# Altium footprint library PcbLib2.PcbLib: 32 footprints (part 2 of 2)
Each footprint in its own frame and in the unit in brackets; x right, y up, seen from the top. Pads: shape width x height; smd on the part's side, far side on the other; paste and mask are expansions set on the pad; w line width, h text height; cw(c..) or ccw(c..) is an arc to the next point about the centre after c.
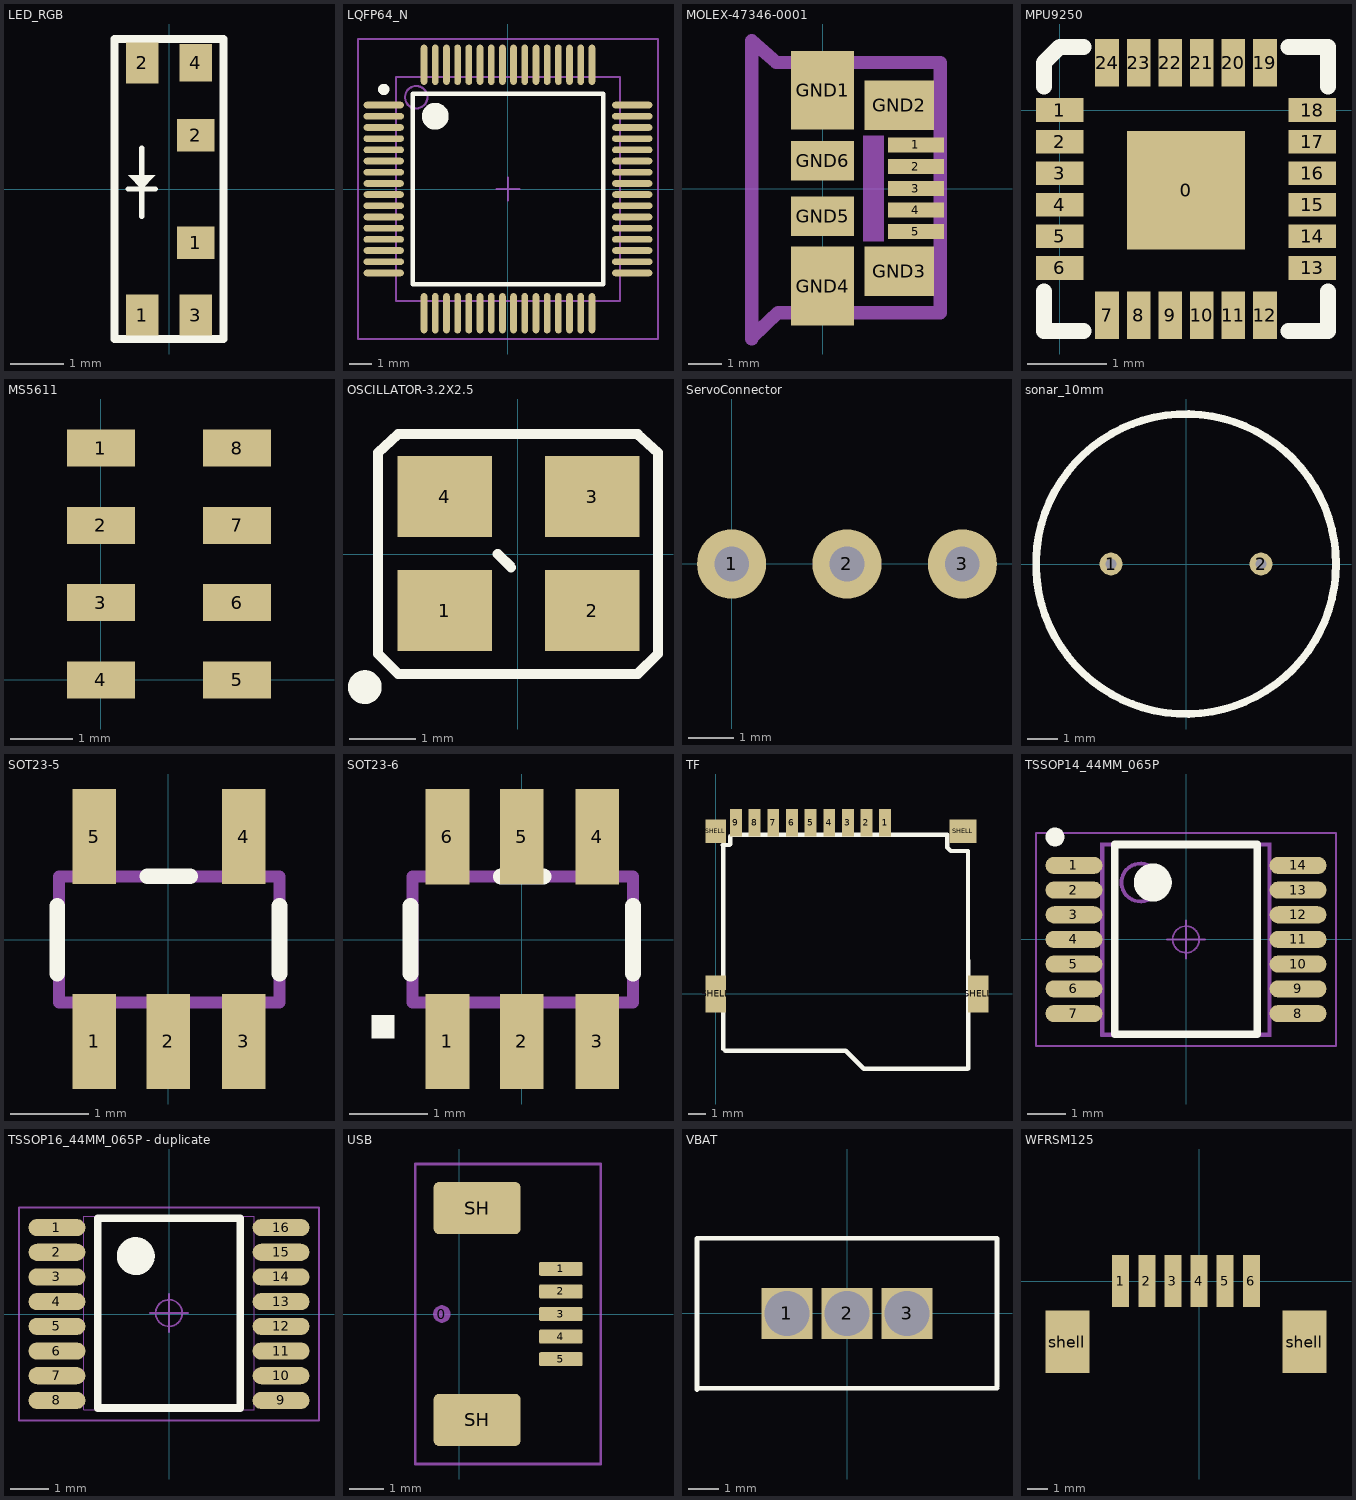
[diagram p1: the footprints below, top view; thin cyan lines are the x and y axes]

## LED_RGB [mm]
pads (6):
  rect 0.6x0.762 smd: 1(-0.5,-2.35) 2(-0.5,2.35) 3(0.5,-2.35)
  rect 0.7x0.6 smd: 1(0.5,-1) 2(0.5,1)
  rect 0.6x0.7 smd: 4(0.5,2.35)
Top Overlay:
  region: -0.762,0.254 -0.254,0.254 -0.508,0
  lines w0.1: -0.762,0 -0.254,0 ; -0.508,-0.508 -0.508,0.762
  lines w0.152: -1.016,-2.794 -1.016,2.794 -0.508,2.794 0.508,2.794 1.016,2.794 1.016,-2.794 0,-2.794 -1.016,-2.794

## LQFP64_N [mm]
pads (64):
  oval 1.8x0.3 smd: 1(-5.55,3.75) 2(-5.55,3.25) 3(-5.55,2.75) 4(-5.55,2.25) 5(-5.55,1.75) 6(-5.55,1.25) 7(-5.55,0.75) 8(-5.55,0.25) 9(-5.55,-0.25) 10(-5.55,-0.75) 11(-5.55,-1.25) 12(-5.55,-1.75) 13(-5.55,-2.25) 14(-5.55,-2.75) 15(-5.55,-3.25) 16(-5.55,-3.75) 33(5.55,-3.75) 34(5.55,-3.25) 35(5.55,-2.75) 36(5.55,-2.25) 37(5.55,-1.75) 38(5.55,-1.25) 39(5.55,-0.75) 40(5.55,-0.25) 41(5.55,0.25) 42(5.55,0.75) 43(5.55,1.25) 44(5.55,1.75) 45(5.55,2.25) 46(5.55,2.75) 47(5.55,3.25) 48(5.55,3.75)
  oval 0.3x1.8 smd: 17(-3.75,-5.55) 18(-3.25,-5.55) 19(-2.75,-5.55) 20(-2.25,-5.55) 21(-1.75,-5.55) 22(-1.25,-5.55) 23(-0.75,-5.55) 24(-0.25,-5.55) 25(0.25,-5.55) 26(0.75,-5.55) 27(1.25,-5.55) 28(1.75,-5.55) 29(2.25,-5.55) 30(2.75,-5.55) 31(3.25,-5.55) 32(3.75,-5.55) 49(3.75,5.55) 50(3.25,5.55) 51(2.75,5.55) 52(2.25,5.55) 53(1.75,5.55) 54(1.25,5.55) 55(0.75,5.55) 56(0.25,5.55) 57(-0.25,5.55) 58(-0.75,5.55) 59(-1.25,5.55) 60(-1.75,5.55) 61(-2.25,5.55) 62(-2.75,5.55) 63(-3.25,5.55) 64(-3.75,5.55)
Top Overlay:
  circle w0.25: c-5.55,4.45 r0.125
  circle w0.6: c-3.25,3.25 r0.3
  lines w0.2: -4.25,-4.25 -4.25,4.25 4.25,4.25 4.25,-4.25 -4.25,-4.25
Mechanical 13:
  circle w0.1: c-4.1,4.1 r0.5
  lines w0.1: -5,-5 -5,5 5,5 5,-5 -5,-5
Mechanical 15:
  lines w0.1: -0.5,0 0.5,0 ; 0,-0.5 0,0.5 ; -6.7,-6.7 -6.7,6.7 6.7,6.7 6.7,-6.7 -6.7,-6.7

## MOLEX-47346-0001 [mil] "MOLEX-47346-0001"
pads (11):
  rect 67x18 smd: 1(111,52) 2(111,26) 3(111,0) 4(111,-25.59) 5(111,-51.18)
  rect 75x94 smd: GND1(0,117) GND4(0,-116.14)
  rect 83x59 smd: GND2(91,99) GND3(91,-98.43)
  rect 75x47 smd: GND5(0,-32.97) GND6(0,33)
Mechanical 8:
  rectangle: 48,-62.99 73,63
Mechanical 16:
  lines w1: -86.61,-177.17 -86.61,178 -82.68,178 -55.12,150 138,150 142,146 142,-145.67 138,-149.61 -55.12,-149.61 -82.68,-177.17 -86.61,-177.17
  lines w16: -84.65,-179.13 -84.65,-177.17 ; -84.65,-177.17 -84.65,176 -55.12,150 140,150 140,-147.64 -53.15,-147.64 -84.65,-177.17

## MPU9250 [mm]
pads (25):
  rect 1.5x1.5 smd: 0(1.6,-1.016)
  rect 0.6x0.3 smd: 1(0,0) 2(0,-0.4) 3(0,-0.8) 4(0,-1.2) 5(0,-1.6) 6(0,-2) 13(3.2,-2) 14(3.2,-1.6) 15(3.2,-1.2) 16(3.2,-0.8) 17(3.2,-0.4) 18(3.2,0)
  rect 0.3x0.6 smd: 7(0.6,-2.6) 8(1,-2.6) 9(1.4,-2.6) 10(1.8,-2.6) 11(2.2,-2.6) 12(2.6,-2.6) 19(2.6,0.6) 20(2.2,0.6) 21(1.8,0.6) 22(1.4,0.6) 23(1,0.6) 24(0.6,0.6)
Top Overlay:
  lines w0.2: -0.2,-2.3 -0.2,-2.8 0.3,-2.8 ; -0.2,0.3 -0.2,0.6 0,0.8 0.3,0.8 ; 2.9,-2.8 3.4,-2.8 3.4,-2.3 ; 2.9,0.8 3.4,0.8 3.4,0.3
3D body: height 1, standoff 0, extent 0.102,-2.515 3.099,0.483

## MS5611 [mm]
pads (8):
  rect 1.1x0.6 smd: 1(0,3.75) 2(0,2.5) 3(0,1.25) 4(0,0) 5(2.2,0) 6(2.2,1.25) 7(2.2,2.5) 8(2.2,3.75)
3D body: height 1, standoff 0, extent -0.508,-0.508 2.667,4.318

## OSCILLATOR-3.2X2.5 [mil] "OSCILLATOR-3.2X2.5"
pads (4):
  rect 56x48 smd: 1(-43.31,-33.46) 2(44,-33.46) 3(44,34) 4(-43.31,34)
Top Overlay:
  circle w12: c-90.55,-78.74 r4
  lines w6: -11.81,0 -3.94,-7.87 ; -82.68,-59.06 -70.87,-70.87 71,-70.87 83,-59.06 83,60 71,71 -70.87,71 -82.68,60 -82.68,-59.06
Mechanical 16:
  lines w1: -82.68,-59.06 -70.87,-70.87 71,-70.87 83,-59.06 83,60 71,71 -70.87,71 -82.68,60 -82.68,-59.06

## ServoConnector [mil]
pads (3):
  round 60 hole 30: 1(0,0) 2(100,0) 3(200,0)

## sonar_10mm [mil]
pads (2):
  round 30 hole 15: 1(-98.43,0) 2(98.43,0)
Top Overlay:
  circle w10: c0,0 r196.85

## SOT23-5 [mil] "SOT23-5"
pads (5):
  rect 22x48 smd: 1(-37.4,-51.19) 2(0,-51.19) 3(38,-51.19) 4(38,52) 5(-37.4,52)
Top Overlay:
  lines w8: -56,-16.91 -56,17 ; -10.57,32 11,32 ; 56,-16.91 56,17
Mechanical 16:
  rectangle: -47.24,34 -27.56,60
  rectangle: 28,34 48,60
  rectangle: 28,-59.06 48,-33.46
  rectangle: -9.84,-59.06 10,-33.46
  rectangle: -47.24,-59.06 -27.56,-33.46
  lines w1: -55.12,-31.5 -55.12,32 56,32 56,-31.5 -55.12,-31.5
  lines w6: -55.12,-31.5 -55.12,32 56,32 56,-31.5 -55.12,-31.5

## SOT23-6 [mil] "SOT23-5"
pads (6):
  rect 22x48 smd: 1(-37.4,-51.19) 2(0,-51.19) 3(38,-51.19) 4(38,52) 5(0,52.01) 6(-37.4,52)
Top Overlay:
  rectangle: -75.81,-49.81 -64,-38
  lines w8: -56,-16.91 -56,17 ; -10.57,32 11,32 ; 56,-16.91 56,17
Mechanical 16:
  rectangle: -47.24,-59.06 -27.56,-33.46
  rectangle: -9.84,-59.06 10,-33.46
  rectangle: 28,-59.06 48,-33.46
  rectangle: 28,34 48,60
  rectangle: -47.24,34 -27.56,60
  lines w1: -55.12,-31.5 56,-31.5 56,32 -55.12,32 -55.12,-31.5
  lines w6: -55.12,-31.5 56,-31.5 56,32 -55.12,32 -55.12,-31.5

## TF [mm]
pads (13):
  rect 0.7x1.6 smd: 1(10,10.1) 2(8.9,10.1) 3(7.8,10.1) 4(6.7,10.1) 5(5.6,10.1) 6(4.5,10.1) 7(3.4,10.1) 8(2.3,10.1) 9(1.2,10.1)
  rect 1.2x2.2 smd: SHELL(0,0) SHELL(15.5,0)
  rect 1.2x1.4 smd: SHELL(0,9.6)
  rect 1.6x1.4 smd: SHELL(14.6,9.6)
Top Overlay:
  lines w0.254: 0.406,8.788 0.813,8.788 0.864,8.839 0.864,9.296 0.965,9.398 13.665,9.398 13.665,8.636 13.868,8.433 14.884,8.433 14.9,-4.4 ; 0.457,-3.251 0.457,8.738 ; 0.559,-3.353 7.671,-3.353 8.738,-4.42 14.88,-4.42

## TSSOP14_44MM_065P [mm]
pads (14):
  oval 1.5x0.45 smd: 1(-2.95,1.95) 2(-2.95,1.3) 3(-2.95,0.65) 4(-2.95,0) 5(-2.95,-0.65) 6(-2.95,-1.3) 7(-2.95,-1.95) 8(2.95,-1.95) 9(2.95,-1.3) 10(2.95,-0.65) 11(2.95,0) 12(2.95,0.65) 13(2.95,1.3) 14(2.95,1.95)
Top Overlay:
  circle w0.25: c-3.45,2.7 r0.125
  circle w0.5: c-0.875,1.5 r0.25
  lines w0.2: -1.875,-2.5 -1.875,2.5 1.875,2.5 1.875,-2.5 -1.875,-2.5
Mechanical 15:
  circle w0.1: c-1.2,1.5 r0.5
  lines w0.1: -2.2,-2.5 -2.2,2.5 2.2,2.5 2.2,-2.5 -2.2,-2.5
Mechanical 16:
  circle w0.05: c0,0 r0.35
  lines w0.001: -2.25,-2.55 -2.25,2.55 2.25,2.55 2.25,-2.55 -2.25,-2.55
  lines w0.05: -0.5,0 0.5,0 ; 0,-0.5 0,0.5 ; -3.95,-2.8 -3.95,2.8 3.95,2.8 3.95,-2.8 -3.95,-2.8

## TSSOP16_44MM_065P - duplicate [mm]
pads (16):
  oval 1.5x0.45 smd: 1(-2.95,2.275) 2(-2.95,1.625) 3(-2.95,0.975) 4(-2.95,0.325) 5(-2.95,-0.325) 6(-2.95,-0.975) 7(-2.95,-1.625) 8(-2.95,-2.275) 9(2.95,-2.275) 10(2.95,-1.625) 11(2.95,-0.975) 12(2.95,-0.325) 13(2.95,0.325) 14(2.95,0.975) 15(2.95,1.625) 16(2.95,2.275)
Top Overlay:
  circle w0.5: c-0.875,1.525 r0.25
  lines w0.2: -1.875,-2.475 1.875,-2.475 1.875,2.525 -1.875,2.525 -1.875,-2.475
Mechanical 16:
  circle w0.05: c0,0.025 r0.35
  lines w0.001: -2.25,-2.525 2.25,-2.525 2.25,2.575 -2.25,2.575 -2.25,-2.525
  lines w0.05: -0.5,0.025 0.5,0.025 ; 0,-0.475 0,0.525 ; -3.95,-2.8 3.95,-2.8 3.95,2.8 -3.95,2.8 -3.95,-2.8

## USB [mm]
height 1.2
pads (8):
  round 0.508 on Mech15: 0(-0.508,0)
  rrect20% 1.25x0.4 smd: 1(2.919,1.3) 2(2.919,0.65) 3(2.919,0) 4(2.919,-0.65) 5(2.919,-1.3)
  rrect20% 2.5x1.5 smd: SH(0.508,-3.048) SH(0.508,3.048)
Top Solder:
  rectangle: 2.286,-1.27 3.556,1.27
Mechanical 15:
  lines w0.076: -1.27,-4.318 4.064,-4.318 4.064,4.318 -1.27,4.318 -1.27,-4.318

## VBAT [mm]
pads (3):
  rect 1.7x1.7 hole 1.5: 1(-2,0) 2(0,0) 3(2,0)
Top Overlay:
  lines w0.152: -5,-2.54 -5,2.5 5,2.5 5,-2.42 ; -5,-2.5 5,-2.5

## WFRSM125 [mm]
pads (8):
  rect 0.81x2.5 smd: 1(-3.75,0) 2(-2.5,0) 3(-1.25,0) 4(0,0) 5(1.25,0) 6(2.5,0)
  rect 2.1x3 smd: shell(-6.3,-2.9) shell(5.05,-2.9)
3D body: height 3.4, standoff 0, extent -6.789,-3.819 5.461,0.381